# Altium integrated library Altium_WS-TATV_rev15a.intlib: 24 symbols
Pins are listed as number, name and electrical type; pins without a type are passive.

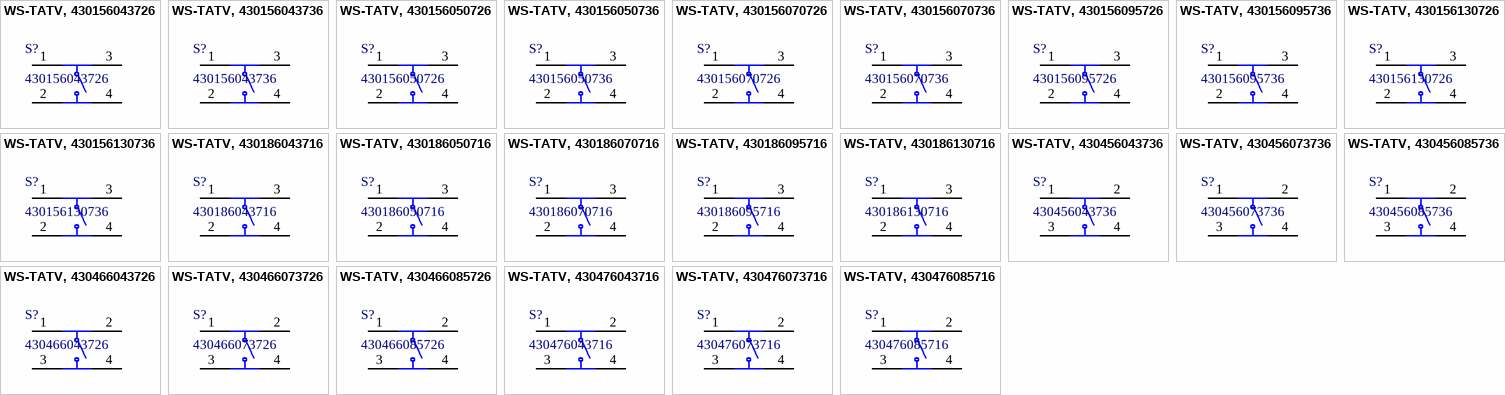
[diagram p0: symbols WS-TATV, 430156043726 to WS-TATV, 430476085716]

## WS-TATV, 430156043726
designator S?, comment 430156043726
WS-TATV 6x6 mm THT; Manufacturer: Wurth Elektronik; partNo: 430156043726; ComponentLink1Description: Manufacturer; ComponentLink1URL: http://www.we-online.de; Created by: Baojun Chen; Created Date: Dec.2015; ComponentLink2Description: Datasheet; ComponentLink2URL: http://katalog.we-online.de/em/datasheet/4301x6xxx7x6.pdf
footprint 4301x60437x6 (6*6mm vertical type, THT, height 4.3mm, salmon actuator 360gf, Bulk)
pins: 1, 2, 3, 4

## WS-TATV, 430156043736
designator S?, comment 430156043736
WS-TATV 6x6 mm THT; Manufacturer: Wurth Elektronik; partNo: 430156043736; ComponentLink1Description: Manufacturer; ComponentLink1URL: http://www.we-online.de; Created by: Baojun Chen; Created Date: Dec.2015; ComponentLink2Description: Datasheet; ComponentLink2URL: http://katalog.we-online.de/em/datasheet/4301x6xxx7x6.pdf
footprint 4301x60437x6 (6*6mm vertical type, THT, height 4.3mm, salmon actuator 360gf, Bulk)
pins: 1, 2, 3, 4

## WS-TATV, 430156050726
designator S?, comment 430156050726
WS-TATV 6x6 mm THT; Manufacturer: Wurth Elektronik; partNo: 430156050726; ComponentLink1Description: Manufacturer; ComponentLink1URL: http://www.we-online.de; Created by: Baojun Chen; Created Date: Dec.2015; ComponentLink2Description: Datasheet; ComponentLink2URL: http://katalog.we-online.de/em/datasheet/4301x6xxx7x6.pdf
footprint 4301x60507x6 (6*6mm vertical type, THT, height 5.0mm, white actuator, 260gf, Bulk)
pins: 1, 2, 3, 4

## WS-TATV, 430156050736
designator S?, comment 430156050736
WS-TATV 6x6 mm THT; Manufacturer: Wurth Elektronik; partNo: 430156050736; ComponentLink1Description: Manufacturer; ComponentLink1URL: http://www.we-online.de; Created by: Baojun Chen; Created Date: Dec.2015; ComponentLink2Description: Datasheet; ComponentLink2URL: http://katalog.we-online.de/em/datasheet/4301x6xxx7x6.pdf
footprint 4301x60507x6 (6*6mm vertical type, THT, height 5.0mm, white actuator, 260gf, Bulk)
pins: 1, 2, 3, 4

## WS-TATV, 430156070726
designator S?, comment 430156070726
WS-TATV 6x6 mm THT; Manufacturer: Wurth Elektronik; partNo: 430156070726; ComponentLink1Description: Manufacturer; ComponentLink1URL: http://www.we-online.de; Created by: Baojun Chen; Created Date: Dec.2015; ComponentLink2Description: Datasheet; ComponentLink2URL: http://katalog.we-online.de/em/datasheet/4301x6xxx7x6.pdf
footprint 4301x60707x6 (6*6mm vertical type, THT, height 7.0mm, white actuator, 260gf, Bulk)
pins: 1, 2, 3, 4

## WS-TATV, 430156070736
designator S?, comment 430156070736
WS-TATV 6x6 mm THT; Manufacturer: Wurth Elektronik; partNo: 430156070736; ComponentLink1Description: Manufacturer; ComponentLink1URL: http://www.we-online.de; Created by: Baojun Chen; Created Date: Dec.2015; ComponentLink2Description: Datasheet; ComponentLink2URL: http://katalog.we-online.de/em/datasheet/4301x6xxx7x6.pdf
footprint 4301x60707x6 (6*6mm vertical type, THT, height 7.0mm, white actuator, 260gf, Bulk)
pins: 1, 2, 3, 4

## WS-TATV, 430156095726
designator S?, comment 430156095726
WS-TATV 6x6 mm THT; Manufacturer: Wurth Elektronik; partNo: 430156095726; ComponentLink1Description: Manufacturer; ComponentLink1URL: http://www.we-online.de; Created by: Baojun Chen; Created Date: Dec.2015; ComponentLink2Description: Datasheet; ComponentLink2URL: http://katalog.we-online.de/em/datasheet/4301x6xxx7x6.pdf
footprint 4301x60957x6 (6*6mm vertical type, THT, height 9.5mm, white actuator, 260gf, Bulk)
pins: 1, 2, 3, 4

## WS-TATV, 430156095736
designator S?, comment 430156095736
WS-TATV 6x6 mm THT; Manufacturer: Wurth Elektronik; partNo: 430156095736; ComponentLink1Description: Manufacturer; ComponentLink1URL: http://www.we-online.de; Created by: Baojun Chen; Created Date: Dec.2015; ComponentLink2Description: Datasheet; ComponentLink2URL: http://katalog.we-online.de/em/datasheet/4301x6xxx7x6.pdf
footprint 4301x60957x6 (6*6mm vertical type, THT, height 9.5mm, white actuator, 260gf, Bulk)
pins: 1, 2, 3, 4

## WS-TATV, 430156130726
designator S?, comment 430156130726
WS-TATV 6x6 mm THT; Manufacturer: Wurth Elektronik; partNo: 430156130726; ComponentLink1Description: Manufacturer; ComponentLink1URL: http://www.we-online.de; Created by: Baojun Chen; Created Date: Dec.2015; ComponentLink2Description: Datasheet; ComponentLink2URL: http://katalog.we-online.de/em/datasheet/4301x6xxx7x6.pdf
footprint 4301x61307x6 (6*6mm vertical type, THT, height 13.0mm, white actuator, 260gf, Bulk)
pins: 1, 2, 3, 4

## WS-TATV, 430156130736
designator S?, comment 430156130736
WS-TATV 6x6 mm THT; Manufacturer: Wurth Elektronik; partNo: 430156130736; ComponentLink1Description: Manufacturer; ComponentLink1URL: http://www.we-online.de; Created by: Baojun Chen; Created Date: Dec.2015; ComponentLink2Description: Datasheet; ComponentLink2URL: http://katalog.we-online.de/em/datasheet/4301x6xxx7x6.pdf
footprint 4301x61307x6 (6*6mm vertical type, THT, height 13.0mm, white actuator, 260gf, Bulk)
pins: 1, 2, 3, 4

## WS-TATV, 430186043716
designator S?, comment 430186043716
WS-TATV 6x6 mm THT; Manufacturer: Wurth Elektronik; partNo: 430186043716; ComponentLink1Description: Manufacturer; ComponentLink1URL: http://www.we-online.de; Created by: Baojun Chen; Created Date: Dec.2015; ComponentLink2Description: Datasheet; ComponentLink2URL: http://katalog.we-online.de/em/datasheet/4301x6xxx7x6.pdf
footprint 4301x60437x6 (6*6mm vertical type, THT, height 4.3mm, salmon actuator 360gf, Bulk)
pins: 1, 2, 3, 4

## WS-TATV, 430186050716
designator S?, comment 430186050716
WS-TATV 6x6 mm THT; Manufacturer: Wurth Elektronik; partNo: 430186050716; ComponentLink1Description: Manufacturer; ComponentLink1URL: http://www.we-online.de; Created by: Baojun Chen; Created Date: Dec.2015; ComponentLink2Description: Datasheet; ComponentLink2URL: http://katalog.we-online.de/em/datasheet/4301x6xxx7x6.pdf
footprint 4301x60507x6 (6*6mm vertical type, THT, height 5.0mm, white actuator, 260gf, Bulk)
pins: 1, 2, 3, 4

## WS-TATV, 430186070716
designator S?, comment 430186070716
WS-TATV 6x6 mm THT; Manufacturer: Wurth Elektronik; partNo: 430186070716; ComponentLink1Description: Manufacturer; ComponentLink1URL: http://www.we-online.de; Created by: Baojun Chen; Created Date: Dec.2015; ComponentLink2Description: Datasheet; ComponentLink2URL: http://katalog.we-online.de/em/datasheet/4301x6xxx7x6.pdf
footprint 4301x60707x6 (6*6mm vertical type, THT, height 7.0mm, white actuator, 260gf, Bulk)
pins: 1, 2, 3, 4

## WS-TATV, 430186095716
designator S?, comment 430186095716
WS-TATV 6x6 mm THT; Manufacturer: Wurth Elektronik; partNo: 430186095716; ComponentLink1Description: Manufacturer; ComponentLink1URL: http://www.we-online.de; Created by: Baojun Chen; Created Date: Dec.2015; ComponentLink2Description: Datasheet; ComponentLink2URL: http://katalog.we-online.de/em/datasheet/4301x6xxx7x6.pdf
footprint 4301x60957x6 (6*6mm vertical type, THT, height 9.5mm, white actuator, 260gf, Bulk)
pins: 1, 2, 3, 4

## WS-TATV, 430186130716
designator S?, comment 430186130716
WS-TATV 6x6 mm THT; Manufacturer: Wurth Elektronik; partNo: 430186130716; ComponentLink1Description: Manufacturer; ComponentLink1URL: http://www.we-online.de; Created by: Baojun Chen; Created Date: Dec.2015; ComponentLink2Description: Datasheet; ComponentLink2URL: http://katalog.we-online.de/em/datasheet/4301x6xxx7x6.pdf
footprint 4301x61307x6 (6*6mm vertical type, THT, height 13.0mm, white actuator, 260gf, Bulk)
pins: 1, 2, 3, 4

## WS-TATV, 430456043736
designator S?, comment 430456043736
WS-TATV 12x12 mm THT washable; Manufacturer: Wurth Elektronik; partNo: 430456043736; ComponentLink1Description: Manufacturer; ComponentLink1URL: http://www.we-online.de; Created by: Baojun Chen; Created Date: Dec.2015; ComponentLink2Description: Datasheet; ComponentLink2URL: http://katalog.we-online.de/em/datasheet/4304x60437x6.pdf
footprint 4304x60437x6 (12*12mm vertical type,THT,  height 4.3mm, salmon actuator, 360gf, Bulk)
pins: 1, 2, 3, 4

## WS-TATV, 430456073736
designator S?, comment 430456073736
WS-TATV 12x12 mm THT washable; Manufacturer: Wurth Elektronik; partNo: 430456073736; ComponentLink1Description: Manufacturer; ComponentLink1URL: http://www.we-online.de; Created by: Baojun Chen; Created Date: Dec.2015; ComponentLink2Description: Datasheet; ComponentLink2URL: http://katalog.we-online.de/em/datasheet/4304x60737x6.pdf
footprint 4304x60737x6 (12*12mm vertical type,THT,  height 7.3mm, square salmon actuator, 360gf, Bulk)
pins: 1, 2, 3, 4

## WS-TATV, 430456085736
designator S?, comment 430456085736
WS-TATV 12x12 mm THT washable; Manufacturer: Wurth Elektronik; partNo: 430456085736; ComponentLink1Description: Manufacturer; ComponentLink1URL: http://www.we-online.de; Created by: Baojun Chen; Created Date: Dec.2015; ComponentLink2Description: Datasheet; ComponentLink2URL: http://katalog.we-online.de/em/datasheet/4304x60857x6.pdf
footprint 4304x60857x6 (12*12mm vertical type,THT,  height 8.5mm, salmon actuator, 360gf, Bulk)
pins: 1, 2, 3, 4

## WS-TATV, 430466043726
designator S?, comment 430466043726
WS-TATV 12x12 mm THT washable; Manufacturer: Wurth Elektronik; partNo: 430466043726; ComponentLink1Description: Manufacturer; ComponentLink1URL: http://www.we-online.de; Created by: Baojun Chen; Created Date: Dec.2015; ComponentLink2Description: Datasheet; ComponentLink2URL: http://katalog.we-online.de/em/datasheet/4304x60437x6.pdf
footprint 4304x60437x6 (12*12mm vertical type,THT,  height 4.3mm, salmon actuator, 360gf, Bulk)
pins: 1, 2, 3, 4

## WS-TATV, 430466073726
designator S?, comment 430466073726
WS-TATV 12x12 mm THT washable; Manufacturer: Wurth Elektronik; partNo: 430466073726; ComponentLink1Description: Manufacturer; ComponentLink1URL: http://www.we-online.de; Created by: Baojun Chen; Created Date: Dec.2015; ComponentLink2Description: Datasheet; ComponentLink2URL: http://katalog.we-online.de/em/datasheet/4304x60737x6.pdf
footprint 4304x60737x6 (12*12mm vertical type,THT,  height 7.3mm, square salmon actuator, 360gf, Bulk)
pins: 1, 2, 3, 4

## WS-TATV, 430466085726
designator S?, comment 430466085726
WS-TATV 12x12 mm THT washable; Manufacturer: Wurth Elektronik; partNo: 430466085726; ComponentLink1Description: Manufacturer; ComponentLink1URL: http://www.we-online.de; Created by: Baojun Chen; Created Date: Dec.2015; ComponentLink2Description: Datasheet; ComponentLink2URL: http://katalog.we-online.de/em/datasheet/4304x60857x6.pdf
footprint 4304x60857x6 (12*12mm vertical type,THT,  height 8.5mm, salmon actuator, 360gf, Bulk)
pins: 1, 2, 3, 4

## WS-TATV, 430476043716
designator S?, comment 430476043716
WS-TATV 12x12 mm THT washable; Manufacturer: Wurth Elektronik; partNo: 430476043716; ComponentLink1Description: Manufacturer; ComponentLink1URL: http://www.we-online.de; Created by: Baojun Chen; Created Date: Dec.2015; ComponentLink2Description: Datasheet; ComponentLink2URL: http://katalog.we-online.de/em/datasheet/4304x60437x6.pdf
footprint 4304x60437x6 (12*12mm vertical type,THT,  height 4.3mm, salmon actuator, 360gf, Bulk)
pins: 1, 2, 3, 4

## WS-TATV, 430476073716
designator S?, comment 430476073716
WS-TATV 12x12 mm THT washable; Manufacturer: Wurth Elektronik; partNo: 430476073716; ComponentLink1Description: Manufacturer; ComponentLink1URL: http://www.we-online.de; Created by: Baojun Chen; Created Date: Dec.2015; ComponentLink2Description: Datasheet; ComponentLink2URL: http://katalog.we-online.de/em/datasheet/4304x60737x6.pdf
footprint 4304x60737x6 (12*12mm vertical type,THT,  height 7.3mm, square salmon actuator, 360gf, Bulk)
pins: 1, 2, 3, 4

## WS-TATV, 430476085716
designator S?, comment 430476085716
WS-TATV 12x12 mm THT washable; Manufacturer: Wurth Elektronik; partNo: 430476085716; ComponentLink1Description: Manufacturer; ComponentLink1URL: http://www.we-online.de; Created by: Baojun Chen; Created Date: Dec.2015; ComponentLink2Description: Datasheet; ComponentLink2URL: http://katalog.we-online.de/em/datasheet/4304x60857x6.pdf
footprint 4304x60857x6 (12*12mm vertical type,THT,  height 8.5mm, salmon actuator, 360gf, Bulk)
pins: 1, 2, 3, 4